# Altium footprint library dpfootprint.PcbLib: 90 footprints (part 1 of 6)
Each footprint in its own frame and in the unit in brackets; x right, y up, seen from the top. Pads: shape width x height; smd on the part's side, far side on the other; paste and mask are expansions set on the pad; w line width, h text height; cw(c..) or ccw(c..) is an arc to the next point about the centre after c.
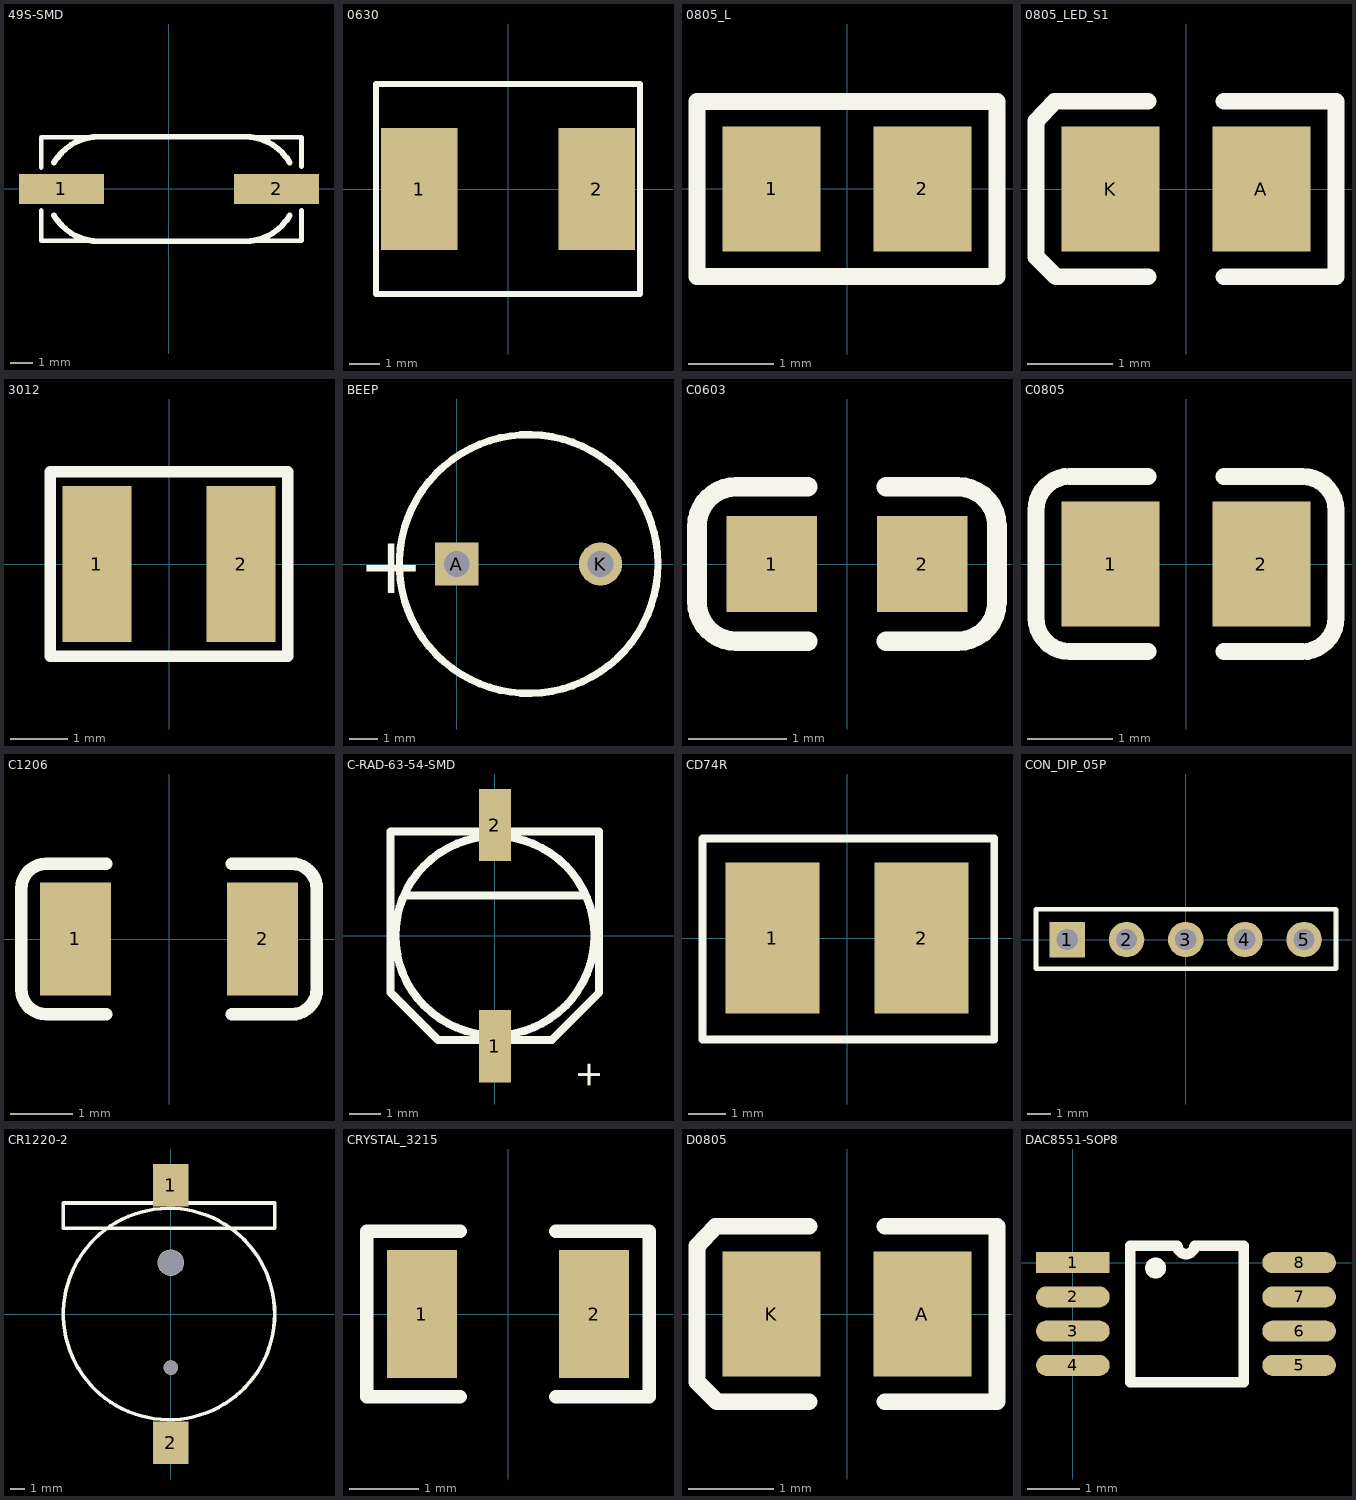
[diagram p0: the footprints below, top view; thin cyan lines are the x and y axes]

## 49S-SMD [mil] "49S-SMD"
pads (2):
  rect 146x51 smd: 1(-185,0) 2(185,0)
Top Overlay:
  lines w8: -220,-37 -220,-89 228,-89 228,-37 ; -220,37 -220,89 228,89 228,38
  lines w10: -197.57,-45.63 ccw(c-120,-0.01) -120,-90 130,-90 ccw(c130,-0.01) 207.57,-45.63 ; -197.57,45.63 cw(c-120,0.01) -120,90 ; -130,90 130,90 cw(c130,0.01) 207.57,45.63

## 0630 [mm]
pads (2):
  rect 2.5x4 smd: 1(-2.9,0) 2(2.9,0)
Top Overlay:
  lines w0.2: -4.318,-3.429 4.318,-3.429 4.318,3.429 -4.318,3.429 -4.318,-3.429

## 0805_L [mm]
pads (2):
  rect 1.16x1.47 smd: 1(-0.89,0) 2(0.89,0)
Top Overlay:
  lines w0.2: -1.77,-1.035 -1.77,1.035 1.77,1.035 1.77,-1.035 -1.77,-1.035
3D body: height 0.6, standoff -0.02, extent -1.022,-0.637 1.028,0.638

## 0805_LED_S1 [mm]
pads (2):
  rect 1.16x1.47 smd: A(0.89,0) K(-0.89,0)
Top Overlay:
  lines w0.2: -0.45,-1.035 -1.535,-1.035 -1.77,-0.8 -1.77,0.8 -1.55,1.035 -0.45,1.035 ; 0.45,-1.035 1.77,-1.035 1.77,1.035 0.45,1.035

## 3012 [mm]
pads (2):
  rect 1.2x2.7 smd: 1(-1.25,0) 2(1.25,0)
Top Overlay:
  lines w0.2: -2.057,-1.6 2.057,-1.6 2.057,1.6 -2.057,1.6 -2.057,-1.6

## BEEP [mm] "BEEP"
pads (2):
  rect 1.5x1.5 hole 0.9: A(0,0)
  round 1.5 hole 0.9: K(5,0)
Top Overlay:
  circle w0.254: c2.5,0 r4.5
  text "+" at -3.437,-1.016 h2

## C0603 [mm] "C0603"
pads (2):
  rect 0.93x0.98 smd: 1(-0.77,0) 2(0.77,0)
Top Overlay:
  lines w0.2: -0.4,-0.79 -1.135,-0.79 cw(c-1.135,-0.39) -1.535,-0.39 -1.535,0.39 cw(c-1.135,0.39) -1.135,0.79 -0.4,0.79 ; 0.4,-0.79 1.135,-0.79 ccw(c1.134,-0.389) 1.535,-0.39 1.535,0.39 ccw(c1.135,0.39) 1.135,0.79 0.4,0.79

## C0805 [mm] "C0805"
pads (2):
  rect 1.16x1.47 smd: 1(-0.89,0) 2(0.89,0)
Top Overlay:
  lines w0.2: -0.45,-1.035 -1.37,-1.035 cw(c-1.37,-0.635) -1.77,-0.635 -1.77,0.635 cw(c-1.37,0.635) -1.37,1.035 -0.45,1.035 ; 0.45,-1.035 1.37,-1.035 ccw(c1.37,-0.635) 1.77,-0.635 1.77,0.635 ccw(c1.37,0.635) 1.37,1.035 0.45,1.035
3D body: height 0.77, standoff -0.01, extent -0.999,-0.625 1.001,0.625

## C1206 [mm]
pads (2):
  rect 1.13x1.8 smd: 1(-1.49,0) 2(1.49,0)
Top Overlay:
  lines w0.2: -1,-1.2 -1.955,-1.2 cw(c-1.955,-0.8) -2.355,-0.8 -2.355,0.8 cw(c-1.955,0.8) -1.955,1.2 -1,1.2 ; 1,-1.2 1.955,-1.2 ccw(c1.955,-0.8) 2.355,-0.8 2.355,0.8 ccw(c1.955,0.8) 1.955,1.2 1,1.2
3D body: height 1, standoff 0, extent -1.602,-0.813 1.598,0.787

## C-RAD-63-54-SMD [mil] "C-RAD-63-54-SMD"
pads (2):
  rect 40x90 smd: 1(0,-137.8) 2(0,137.8)
Top Overlay:
  circle w10: c0,0 r124.02
  lines w10: -110,50 110,50 ; -129.92,-70.87 -70.87,-129.92 70.87,-129.92 129.92,-70.87 129.92,129.92 -129.92,129.92 -129.92,-70.87
  text "+" at 131,-191 h31.5

## CD74R [mm] "CD74R"
pads (2):
  rect 2.5x4 smd: 1(-1.981,0) 2(1.981,0)
Top Overlay:
  lines w0.2: -3.835,-2.692 3.912,-2.692 3.912,2.642 -3.835,2.642 -3.835,-2.692

## CON_DIP_05P [mil] "CON_DIP_05P"
pads (5):
  rect 60x60 hole 36: 1(-200,0)
  round 60 hole 36: 2(-100,0) 3(0,0) 4(100,0) 5(200,0)
Top Overlay:
  lines w7.87: -253,-49 -253,51 254,51 254,-49 -253,-49

## CR1220-2 [mil] "CR1220-2"
pads (4):
  rect 98.43x118.11 smd: 1(0,360) 2(0,-360)
  round 41 hole 39.37: " "(0,-149.84)
  round 74 hole 71: " "(0,143.46)
Top Overlay:
  circle w10: c-5.04,0 r295.28
  lines w10: -300,240 -300,310 290,310 290,240 -300,240
Mechanical 9:
  text "2" at 11.2,-360 h28

## CRYSTAL_3215 [mil] "CRYSTAL_3215"
pads (2):
  rect 40x73 smd: 1(-49.21,0) 2(49.21,0)
Top Overlay:
  lines w7.87: -27.36,-47.24 -80.71,-47.24 -80.71,47.24 -27.36,47.24 ; 27.36,-47.24 80.71,-47.24 80.71,47.24 27.36,47.24
Mechanical 9:
  text "1" at -49.21,11.2 h28
  text "2" at 49.21,11.2 h28

## D0805 [mm] "D0805"
pads (2):
  rect 1.16x1.47 smd: A(0.89,0) K(-0.89,0)
Top Overlay:
  lines w0.2: -0.45,-1.035 -1.535,-1.035 -1.77,-0.8 -1.77,0.8 -1.55,1.035 -0.45,1.035 ; 0.45,-1.035 1.77,-1.035 1.77,1.035 0.45,1.035

## DAC8551-SOP8 [mm]
pads (8):
  rect 1.4x0.4 smd: 1(0,0)
  oval 1.4x0.4 smd: 2(0,-0.65) 3(0,-1.3) 4(0,-1.95) 5(4.3,-1.95) 6(4.3,-1.3) 7(4.3,-0.65) 8(4.3,0)
Top Overlay:
  circle w0.254: c1.573,-0.102 r0.072
  lines w0.2: 1.091,-2.275 1.091,0.325 1.987,0.325 ccw(c2.15,0.325) 2.312,0.325 3.25,0.325 3.25,-2.275 1.091,-2.275